# Altium footprint library SM_L_4030.PcbLib: 1 footprints
Each footprint in its own frame and in the unit in brackets; x right, y up, seen from the top. Pads: shape width x height; smd on the part's side, far side on the other; paste and mask are expansions set on the pad; w line width, h text height; cw(c..) or ccw(c..) is an arc to the next point about the centre after c.
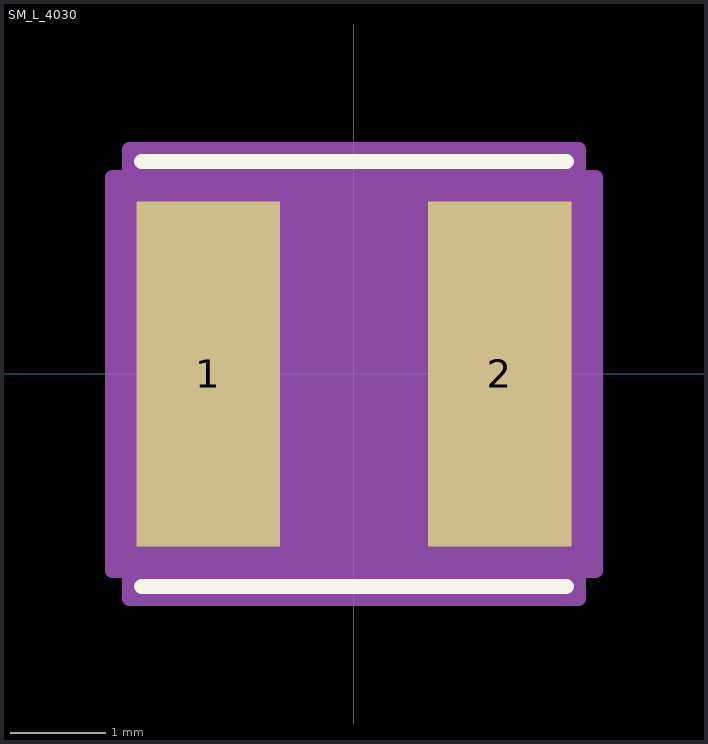
[diagram p0: the footprint, top view; thin cyan lines are the x and y axes]

## SM_L_4030 [mil]
height 118.11
pads (2):
  rect 59x142 smd paste+0 mask+0: 1(-60,0) 2(60,0)
Top Overlay:
  lines w6: -87.5,-87.5 87.5,-87.5 ; -87.5,87.5 87.5,87.5
Mechanical 13:
  circle w0: c-79.5,0 r3
  lines w1: -82.5,-82.5 -82.5,82.5 82.5,82.5 82.5,-82.5 -82.5,-82.5
Mechanical 15:
  region: -92.5,-81 -99.5,-81 -99.5,81 -92.5,81 -92.5,92.5 92.5,92.5 92.5,81 99.5,81 99.5,-81 92.5,-81 92.5,-92.5 -92.5,-92.5
  lines w6: -99.5,-81 -92.5,-81 -92.5,-92.5 92.5,-92.5 92.5,-81 99.5,-81 99.5,81 92.5,81 92.5,92.5 -92.5,92.5 -92.5,81 -99.5,81 -99.5,-81
3D body "ASPI-4030S.STEP": height 118.11, standoff 0, extent -78.74,-78.73 78.74,78.74
3D body: height 10, standoff 0, extent 0,0 10,10